# EAGLE library part TA7291P (library takeyama)
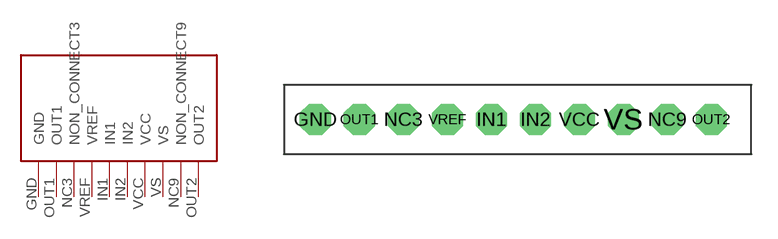
[diagram p3: symbol with the pads of TA7291P]; footprint TA7291P]]

Designator prefix -

## TA7291P  [TA7291P]]
GND  GND  sup
IN1  IN1  in
IN2  IN2  in
NC3  NON_CONNECT3  nc
NC9  NON_CONNECT9  nc
OUT1  OUT1  out
OUT2  OUT2  out
VCC  VCC  pwr
VREF  VREF  pwr
VS  VS  pwr

## Footprint TA7291P] (pad centres in mm)
drill 1.2 octagon: GND -11.68,0; IN1 -1.52,0; IN2 1.02,0; NC3 -6.6,0; NC9 8.64,0; OUT1 -9.14,0; OUT2 11.18,0; VCC 3.56,0; VREF -4.06,0; VS 6.1,0